# Altium footprint library B66230_32_16_9.PcbLib: 1 footprints
Each footprint in its own frame and in the unit in brackets; x right, y up, seen from the top. Pads: shape width x height; smd on the part's side, far side on the other; paste and mask are expansions set on the pad; w line width, h text height; cw(c..) or ccw(c..) is an arc to the next point about the centre after c.
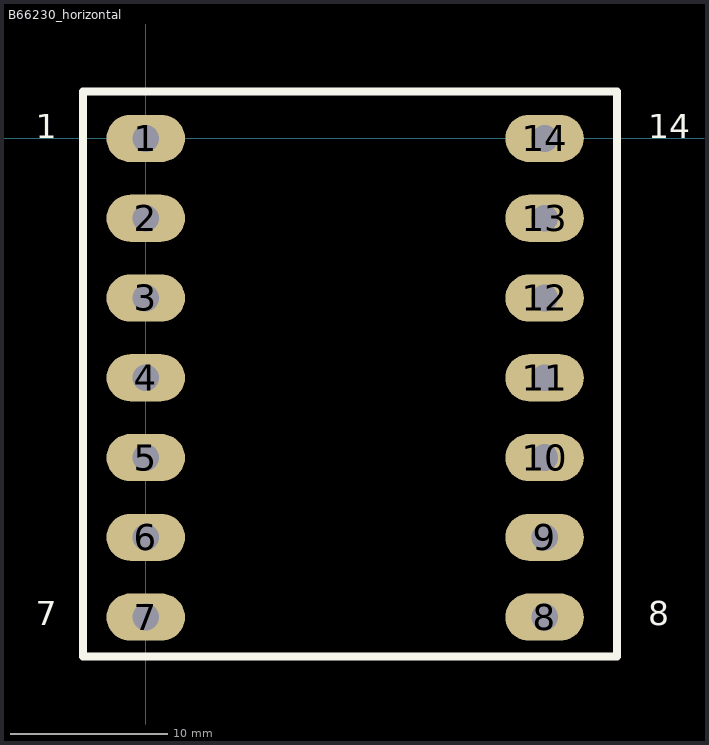
[diagram p0: the footprint, top view; thin cyan lines are the x and y axes]

## B66230_horizontal [mm]
pads (14):
  oval 5x3 hole 1.7: 1(0,0) 2(0,-5.08) 3(0,-10.16) 4(0,-15.24) 5(0,-20.32) 6(0,-25.4) 7(0,-30.48) 8(25.4,-30.48) 9(25.4,-25.4) 10(25.4,-20.32) 11(25.4,-15.24) 12(25.4,-10.16) 13(25.4,-5.08) 14(25.4,0)
Top Overlay:
  lines w0.5: -4,-33 -4,3 30,3 30,-33 -4,-33
  text "14" at 32,0 h1.52
  text "8" at 32,-31 h1.52
  text "7" at -7,-31 h1.52
  text "1" at -7,0 h1.52